# Altium footprint library 器件封装.PCBLIB: 225 footprints (part 14 of 15)
Each footprint in its own frame and in the unit in brackets; x right, y up, seen from the top. Pads: shape width x height; smd on the part's side, far side on the other; paste and mask are expansions set on the pad; w line width, h text height; cw(c..) or ccw(c..) is an arc to the next point about the centre after c.
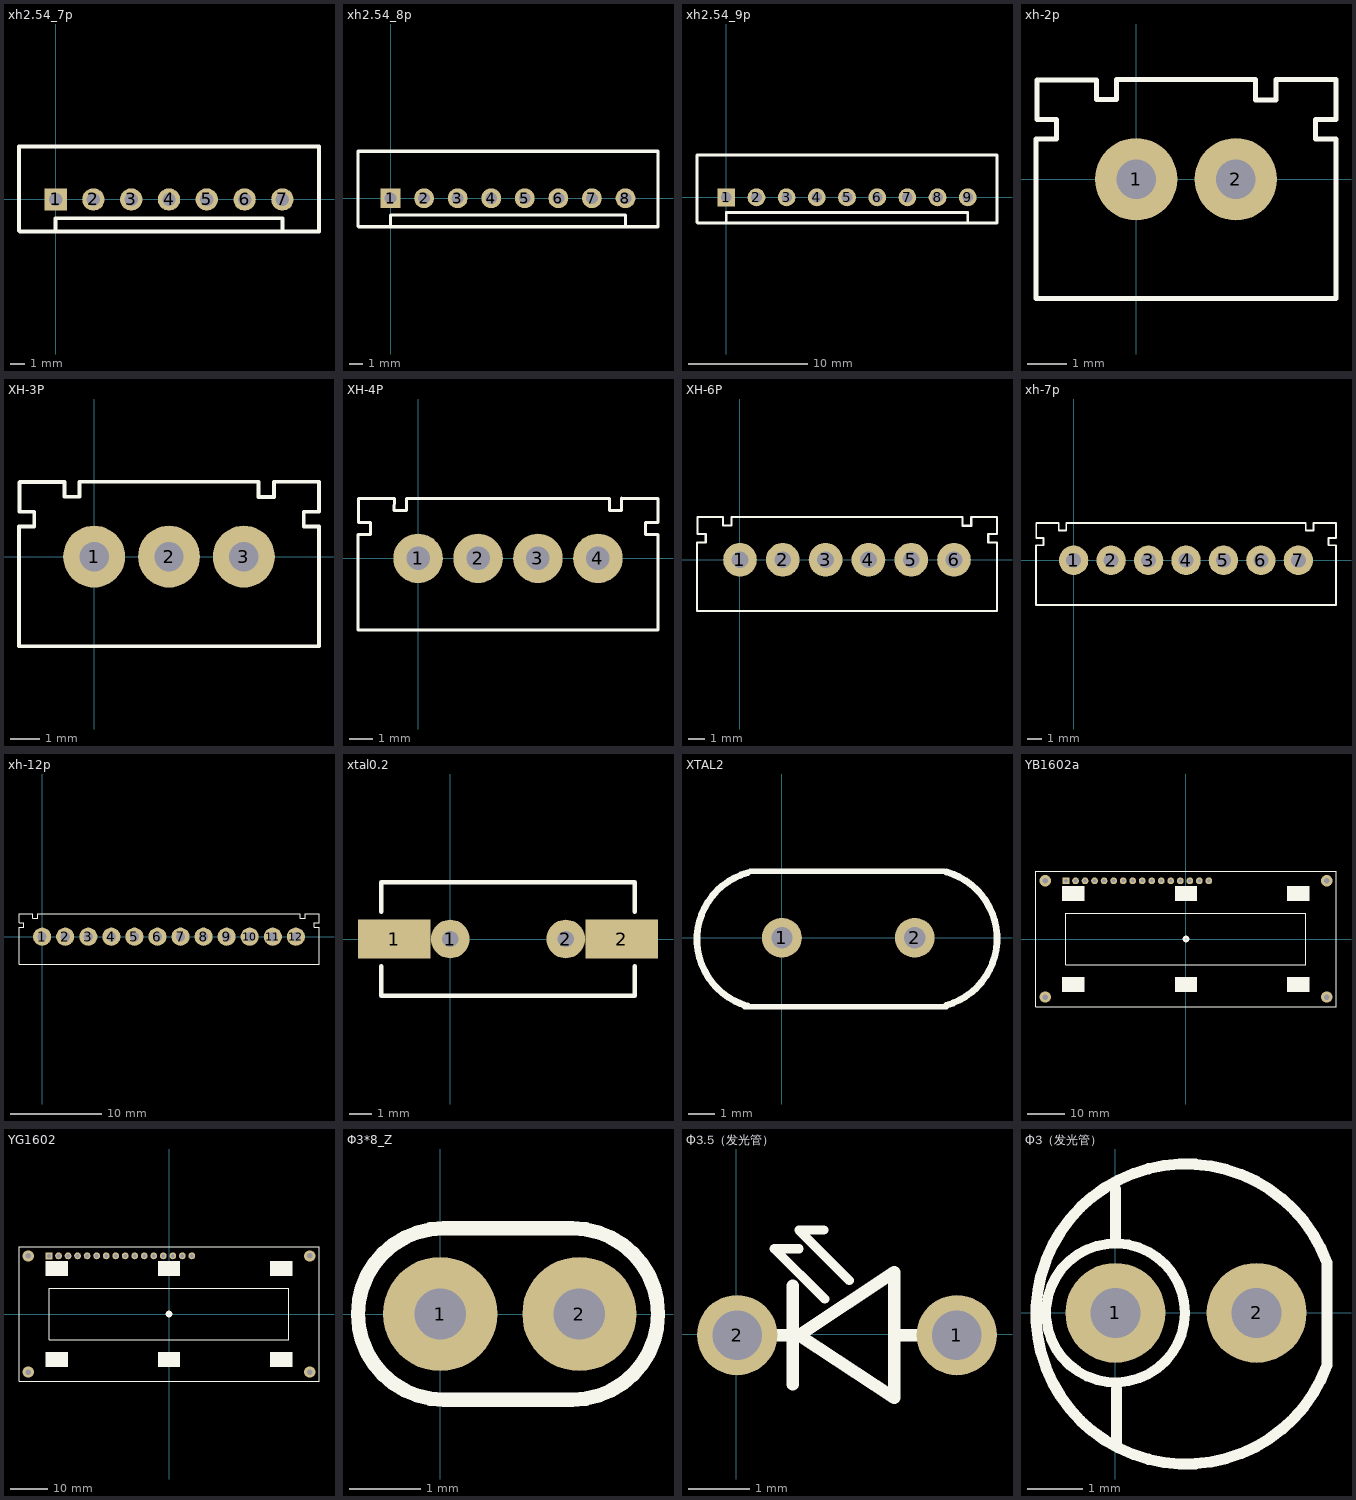
[diagram p13: the footprints below, top view; thin cyan lines are the x and y axes]

## xh2.54_7p [mm]
pads (7):
  rect 1.5x1.5 hole 0.9: 1(0,0)
  round 1.5 hole 0.9: 2(2.54,0) 3(5.08,0) 4(7.62,0) 5(10.16,0) 6(12.7,0) 7(15.24,0)
TopOverlay:
  lines w0.25: 0,-2.16 0,-1.27 15.24,-1.27 15.24,-2.16 ; -2.46,3.565 -2.46,-2.11 -2.41,-2.16 17.7,-2.16 17.7,3.565 -0.08,3.565 -2.46,3.565 ; -2.46,3.565 -2.46,3.565

## xh2.54_8p [mm]
pads (8):
  rect 1.5x1.5 hole 0.9: 1(0,0)
  round 1.5 hole 0.9: 2(2.54,0) 3(5.08,0) 4(7.62,0) 5(10.16,0) 6(12.7,0) 7(15.24,0) 8(17.78,0)
TopOverlay:
  lines w0.25: 0,-2.16 0,-1.27 17.78,-1.27 17.78,-2.16 ; -2.46,3.565 -0.08,3.565 20.24,3.565 20.24,-2.16 -2.41,-2.16 -2.46,-2.11 -2.46,3.565 ; -2.46,3.565 -2.46,3.565

## xh2.54_9p [mm]
pads (9):
  rect 1.5x1.5 hole 0.9: 1(0,0)
  round 1.5 hole 0.9: 2(2.54,0) 3(5.08,0) 4(7.62,0) 5(10.16,0) 6(12.7,0) 7(15.24,0) 8(17.78,0) 9(20.32,0)
TopOverlay:
  lines w0.25: 0,-2.16 0,-1.27 20.32,-1.27 20.32,-2.16 ; -2.46,3.565 -2.46,-2.11 -2.41,-2.16 22.78,-2.16 22.78,3.565 -0.08,3.565 -2.46,3.565 ; -2.46,3.565 -2.46,3.565

## xh-2p [mm]
pads (2):
  round 2.1 hole 1: 1(0,0) 2(2.54,0)
TopOverlay:
  lines w0.127: -2.53,2.52 -2.53,1.52 -2.03,1.52 -2.03,1.02 ; -2.52,2.53 -1.01,2.53 -1.01,2.03 -0.5,2.03 -0.5,2.54 3.04,2.54 3.04,2.02 3.56,2.02 3.56,2.54 5.09,2.54 5.09,1.52 4.57,1.52 4.57,1.02 5.09,1.02 5.09,-3.04 -2.55,-3.04 -2.55,1.02 -2.05,1.02

## XH-3P [mm]
pads (3):
  round 2.1 hole 1: 1(0,0) 2(2.54,0) 3(5.08,0)
TopOverlay:
  lines w0.127: -2.53,2.52 -2.53,1.52 -2.03,1.52 -2.03,1.02 ; -2.52,2.53 -1.01,2.53 -1.01,2.03 -0.5,2.03 -0.5,2.54 5.58,2.54 5.58,2.02 6.1,2.02 6.1,2.54 7.63,2.54 7.63,1.52 7.11,1.52 7.11,1.02 7.63,1.02 7.63,-3.04 -2.55,-3.04 -2.55,1.02 -2.05,1.02

## XH-4P [mm]
pads (4):
  round 2.1 hole 1: 1(0,0) 2(2.54,0) 3(5.08,0) 4(7.62,0)
TopOverlay:
  lines w0.127: -2.53,2.52 -2.53,1.52 -2.03,1.52 -2.03,1.02 ; -2.52,2.53 -1.01,2.53 -1.02,2.03 -0.5,2.03 -0.5,2.54 8.12,2.54 8.12,2.02 8.61,2.02 ; -2.05,1.02 -2.55,1.02 -2.55,-3.04 10.17,-3.04 10.17,1.02 9.65,1.02 9.65,1.52 10.17,1.52 10.17,2.54 8.64,2.54 ; 8.62,2.03 8.62,2.56

## XH-6P [mm]
pads (6):
  round 2 hole 1: 1(0,0) 2(2.54,0) 3(5.08,0) 4(7.62,0) 5(10.16,0) 6(12.7,0)
TopOverlay:
  lines w0.127: -2.53,2.52 -2.53,1.52 -2.03,1.52 -2.03,1.02 ; -2.52,2.53 -1.01,2.53 -1.01,2.03 -0.5,2.03 -0.5,2.54 13.2,2.54 13.2,2.02 13.72,2.02 13.72,2.54 15.25,2.54 15.25,1.52 14.73,1.52 14.73,1.02 15.25,1.02 15.25,-3.04 -2.55,-3.04 -2.55,1.02 -2.05,1.02

## xh-7p [mm]
pads (7):
  round 2 hole 1: 1(0,0) 2(2.54,0) 3(5.08,0) 4(7.62,0) 5(10.16,0) 6(12.7,0) 7(15.24,0)
TopOverlay:
  lines w0.127: -2.53,2.52 -2.53,1.52 -2.03,1.52 -2.03,1.02 ; -2.52,2.53 -1.01,2.53 -1.01,2.03 -0.5,2.03 -0.5,2.54 15.74,2.54 15.74,2.02 16.26,2.02 16.26,2.54 17.79,2.54 17.79,1.52 17.27,1.52 17.27,1.02 17.79,1.02 17.79,-3.04 -2.55,-3.04 -2.55,1.02 -2.05,1.02

## xh-12p [mm]
pads (12):
  round 2 hole 1: 1(0,0) 2(2.54,0) 3(5.08,0) 4(7.62,0) 5(10.16,0) 6(12.7,0) 7(15.24,0) 8(17.78,0) 9(20.32,0) 10(22.86,0) 11(25.4,0) 12(27.94,0)
TopOverlay:
  lines w0.127: -2.53,2.52 -2.53,1.52 -2.03,1.52 -2.03,1.02 ; -2.52,2.53 -1.01,2.53 -1.01,2.03 -0.5,2.03 -0.5,2.54 28.44,2.54 28.44,2.02 ; -2.05,1.02 -2.55,1.02 -2.55,-3.04 30.49,-3.04 30.49,1.02 29.97,1.02 29.97,1.52 30.49,1.52 30.49,2.54 28.96,2.54 28.96,2.02 28.44,2.02

## xtal0.2 [mm]
pads (4):
  rect 3.2x1.7 smd: 1(-2.46,0) 2(7.54,0)
  round 1.7 hole 0.72: 1(0,0) 2(5.08,0)
TopOverlay:
  lines w0.2: -3.03,-1.2 -3.03,-2.5 8.11,-2.5 8.11,-1.2 ; -3.03,1.2 -3.03,2.5 8.11,2.5 8.11,1.2
BottomOverlay:
  lines w0.254: -3.03,-2.5 -3.03,2.5 8.11,2.5 8.11,-2.5 -3.03,-2.5

## XTAL2 [mm]
pads (2):
  round 1.5 hole 0.8: 1(0.003,-0.004) 2(5.003,-0.004)
TopOverlay:
  lines w0.2: -1.397,-2.604 6.203,-2.604 ; -1.197,2.496 6.103,2.496
  lines w0.254: -1.29,-2.58 cw(c-0.587,-0.069) -1.283,2.444 ; 6.189,-2.553 ccw(c5.493,-0.04) 6.196,2.472

## YB1602a [mm]
pads (23):
  round 1.8 on Top Overlay hole 0.1: 0(0.002,0.01)
  rect 1.8x1.8 hole 1: 1(-31.998,15.51)
  round 1.8 hole 1: 2(-29.458,15.51) 3(-26.918,15.51) 4(-24.378,15.51) 5(-21.838,15.51) 6(-19.298,15.51) 7(-16.758,15.51) 8(-14.218,15.51) 9(-11.678,15.51) 10(-9.138,15.51) 11(-6.598,15.51) 12(-4.058,15.51) 13(-1.518,15.51) 14(1.022,15.51) 15(3.562,15.51) 16(6.102,15.51)
  rect 6x4 on Top Overlay: ""(-29.998,-12.09) ""(-29.998,12.11) ""(0.002,-12.09) ""(0.002,12.11) ""(30.002,-12.09) ""(30.002,12.11)
via -37.498,15.51 diameter 3 hole 1.5
via 37.502,15.51 diameter 3 hole 1.5
via 37.502,-15.49 diameter 3 hole 1.5
via -37.498,-15.49 diameter 3 hole 1.5
TopOverlay:
  lines w0.18: -39.998,-17.99 -39.998,18.01 40.002,18.01 40.002,-17.99 -39.998,-17.99 ; -31.998,-6.89 32.002,-6.89 32.002,6.91 -31.998,6.91 -31.998,-6.89

## YG1602 [mm]
pads (23):
  round 1.8 on Top Overlay: 0(0,0)
  rect 1.8x1.8 hole 1: 1(-32,15.5)
  round 1.8 hole 1: 2(-29.46,15.5) 3(-26.92,15.5) 4(-24.38,15.5) 5(-21.84,15.5) 6(-19.3,15.5) 7(-16.76,15.5) 8(-14.22,15.5) 9(-11.68,15.5) 10(-9.14,15.5) 11(-6.6,15.5) 12(-4.06,15.5) 13(-1.52,15.5) 14(1.02,15.5) 15(3.56,15.5) 16(6.1,15.5)
  rect 6x4 on Top Overlay: ""(-30,-12.1) ""(-30,12.1) ""(0,-12.1) ""(0,12.1) ""(30,-12.1) ""(30,12.1)
via -37.5,-15.5 diameter 3 hole 1.5
via 37.5,-15.5 diameter 3 hole 1.5
via 37.5,15.5 diameter 3 hole 1.5
via -37.5,15.5 diameter 3 hole 1.5
TopOverlay:
  lines w0.18: -40,-18 40,-18 40,18 -40,18 -40,-18 ; -32,-6.9 -32,6.9 32,6.9 32,-6.9 -32,-6.9

## Φ3*8_Z [mm]
pads (2):
  round 1.6 hole 0.72: 1(0,0) 2(1.95,0)
TopOverlay:
  lines w0.2: 0.05,-1.2 cw(c0.05,0) 0.05,1.2 1.85,1.2 cw(c1.85,0) 1.85,-1.2 0.05,-1.2

## Φ3.5（发光管） [mm]
pads (2):
  round 1.3 hole 0.8: 1(3.567,-0.01) 2(0.011,-0.01)
TopOverlay:
  lines w0.15: 1.011,1.39 0.611,1.39 1.427,0.574 ; 1.411,1.69 1.011,1.69 1.827,0.874
  lines w0.2: 0.519,-0.01 1.011,-0.01 ; 0.911,-0.81 0.911,0.79 ; 2.551,-0.01 3.059,-0.01 ; 1.011,-0.01 2.551,1.006 2.551,-1.026 1.011,-0.01

## Φ3（发光管） [mm]
pads (2):
  round 1.8 hole 0.9: 1(0,0) 2(2.54,0)
TopOverlay:
  circle w0.18: c0,0 r1.25
  lines w0.2: 0,1.33 0,2.23 ; 0.02,-2.32 0.02,-1.37 ; 3.807,-0.943 cw(c1.27,-0.02) 3.807,0.903 3.807,-0.943